# EAGLE library part ZXCT1030 (library ads4)
ZXCT1030 High-Side Current Monitor with Comparator
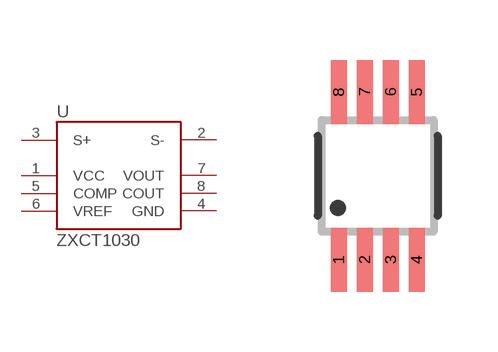
[diagram p69: symbol with the pads of MSOP8; footprint MSOP8]

Designator prefix -

## ZXCT1030  [MSOP8]
1  VCC  pwr
2  S-  pas
3  S+  pas
4  GND  pwr
5  COMP  pas
6  VREF  pas
7  VOUT  pas
8  COUT  pas

## Footprint MSOP8 (pad centres in mm)
Micro Small Outline Package This is copied from ref-packages.lbr but the pads have been modified to have dimensions 1.6mm x 0.4mm as suggested by Texas Instruments' DGK8 package. The pin spacing is 0.65mm and the package body is nominally 3mm wide by 3mm long.
smd 0.4 x 1.6: 1 -0.975,-2.1; 2 -0.325,-2.1; 3 0.325,-2.1; 4 0.975,-2.1; 5 0.975,2.1; 6 0.325,2.1; 7 -0.325,2.1; 8 -0.975,2.1